# Altium integrated library ElemoW12S-01.IntLib: 10 symbols
Pins are listed as number, name and electrical type; pins without a type are passive.

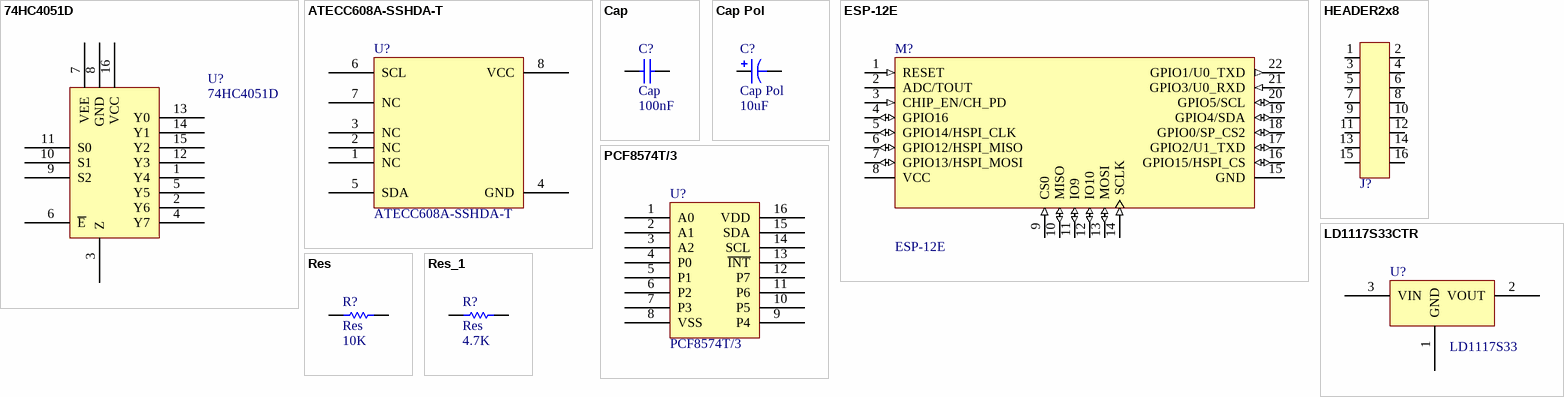
[diagram p0: symbols 74HC4051D to Res_1]

## 74HC4051D
designator U?
CMOS ANALOG/DIGITAL MUX/DEMUX
footprint SO_16N (SOIC, 16-Leads, Body 9.9x3.9mm (max), Pitch 1.27mm, IPC Medium Density)
pins: 1 Y4, 2 Y6, 3 Z, 4 Y7, 5 Y5, 6 ~{E}, 7 VEE, 8 GND, 9 S2, 10 S1, 11 S0, 12 Y3, 13 Y0, 14 Y1, 15 Y2, 16 VCC

## ATECC608A-SSHDA-T
designator U?
IC AUTHENTICATION CHIP 8SOIC; MF: Microchip; Check_prices: https://www.snapeda.com/parts/ATECC608A-SSHDA-T/Microchip/view-part/2888503/?ref=eda; Availability: Warning; Price: None; Package: SO-8 Microchip; Value: *; Purchase-URL: https://pricing.snapeda.com/search/part/ATECC608A-SSHDA-T/?ref=eda; SnapEDA_Link: https://www.snapeda.com/parts/ATECC608A-SSHDA-T/Microchip/view-part/2888503/?ref=snap; MP: ATECC608A-SSHDA-T
footprint SO_8N (SOIC, 8-Leads, Body 5.1x3.9mm (max), Pitch 1.27mm, IPC Medium Density)
pins: 1 NC, 2 NC, 3 NC, 4 GND, 5 SDA, 6 SCL, 7 NC, 8 VCC

## Cap
designator C?  value 100nF
Capacitor; Published: 8-Jun-2000; LatestRevisionDate: 17-Jul-2002; LatestRevisionNote: Re-released for DXP Platform.; PackageReference: RAD-0.3; Publisher: Altium Limited; PackageDescription: Radial Cap, Thru-Hole; 2 Leads; 0.3 in Pin Spacing
footprint RAD-0.3 (Radial Cap, Thru-Hole; 2 Leads; 0.3 in Pin Spacing)
simulation model CAP (Capacitor)
signal-integrity model Cap
footprint 0201 (Chip Resistor, 2-Leads, Body 0.6x0.3mm, IPC Medium Density)
footprint 0402 (Chip Resistor, 2-Leads, Body 1.0x0.5mm, IPC Medium Density)
footprint 0603 (Chip Resistor, 2-Leads, Body 1.6x0.8mm, IPC Medium Density)
footprint 0805 (Chip Resistor, 2-Leads, Body 2.0x1.2mm, IPC Medium Density)
footprint 1206 (Chip Capacitor, 2-Leads, Body 3.2x1.6mm, IPC Medium Density)
pins: 1, 2

## Cap Pol
designator C?  value 10uF
Polarized Capacitor (Axial); Published: 8-Jun-2000; LatestRevisionDate: 17-Jul-2002; LatestRevisionNote: Re-released for DXP Platform.; PackageReference: POLAR0.8; Publisher: Altium Limited; PackageDescription: Polarized Capacitor; 2 Leads
footprint POLAR0.8 (Polarized Capacitor; 2 Leads)
simulation model CAP (Capacitor)
signal-integrity model Cap Pol
footprint CAPAE170X170 (Molded Capacitor, 2-Leads, Body 4.3x4.3mm, IPC Medium Density)
footprint CAPAE325X325
footprint CAPAE330X330 (Molded Capacitor, 2-Leads, Body 8.3x8.3mm, IPC Medium Density)
footprint 0603P (Chip Resistor, 2-Leads, Body 1.6x0.8mm, IPC Medium Density)
footprint 0805P (hip Capacitor, 2-Leads, Body 2.1x1.4mm, IPC Medium Density)
footprint 1206P (Chip Capacitor, 2-Leads, Body 3.2x1.6mm, IPC Medium Density)
footprint RB100-270
footprint EL_C_4_5
pins: 1, 2
1 alternate drawing of the same symbol

## ESP-12E
designator M?
ESP-12F WiFi module - developed by Ai-thinker Team
footprint ESP8266-12E
pins: 1 RESET (in), 2 ADC/TOUT, 3 CHIP_EN/CH_PD (in), 4 GPIO16 (io), 5 GPIO14/HSPI_CLK (io), 6 GPIO12/HSPI_MISO (io), 7 GPIO13/HSPI_MOSI (io), 8 VCC (power), 9 CS0 (in), 10 MISO (io), 11 IO9 (io), 12 IO10 (io), 13 MOSI (io), 14 SCLK (in), 15 GND (power), 16 GPIO15/HSPI_CS (io), 17 GPIO2/U1_TXD (io), 18 GPIO0/SP_CS2 (io), 19 GPIO4/SDA (io), 20 GPIO5/SCL (io), 21 GPIO3/U0_RXD (in), 22 GPIO1/U0_TXD (out)

## HEADER2x8
designator J?, comment 2x8 PIN HEADER  (value not drawn)
footprint HDR_2X8_1.27_SMT
pins: 1, 2, 3, 4, 5, 6, 7, 8, 9, 10, 11, 12, 13, 14, 15, 16

## LD1117S33CTR
designator U?, comment LD1117S33
IC REG LINEAR 3.3V 800MA; Part Number: LD1117S33CTR; Manufacturer: STMicroelectronics; Package: SOT223
footprint SOT223_4 (SOT223, 4-Leads, Body 6.7x7.3mm (max), Pitch 2.30mm, IPC Medium Density)
pins: 1 GND, 2 VOUT, 3 VIN

## PCF8574T/3
designator U?
I2C IO Expander
footprint SO_16W (SOIC, 16-Leads, Body 10.3x7.5mm (max), Pitch 1.27mm, IPC Medium Density)
pins: 1 A0, 2 A1, 3 A2, 4 P0, 5 P1, 6 P2, 7 P3, 8 VSS, 9 P4, 10 P5, 11 P6, 12 P7, 13 ~{INT}, 14 SCL, 15 SDA, 16 VDD

## Res
designator R?  value 10K
Resistor; Published: 8-Jun-2000; LatestRevisionDate: 17-Jul-2002; LatestRevisionNote: Re-released for DXP Platform.; PackageReference: AXIAL-0.3; Publisher: Altium Limited; PackageDescription: Axial Device, Thru-Hole; 2 Leads; 0.3 in Pin Spacing
footprint AXIAL-0.3 (Axial Device, Thru-Hole; 2 Leads; 0.3 in Pin Spacing)
simulation model RESISTOR (Resistor)
signal-integrity model Res
footprint 0201 (Chip Resistor, 2-Leads, Body 0.6x0.3mm, IPC Medium Density)
footprint 0402 (Chip Resistor, 2-Leads, Body 1.0x0.5mm, IPC Medium Density)
footprint 0603 (Chip Resistor, 2-Leads, Body 1.6x0.8mm, IPC Medium Density)
footprint 0805 (Chip Resistor, 2-Leads, Body 2.0x1.2mm, IPC Medium Density)
footprint 1206 (Chip Capacitor, 2-Leads, Body 3.2x1.6mm, IPC Medium Density)
pins: 1, 2

## Res_1
designator R?, comment Res  value 4.7K
Resistor; Published: 8-Jun-2000; LatestRevisionDate: 17-Jul-2002; LatestRevisionNote: Re-released for DXP Platform.; PackageReference: AXIAL-0.3; Publisher: Altium Limited; PackageDescription: Axial Device, Thru-Hole; 2 Leads; 0.3 in Pin Spacing
footprint AXIAL-0.3 (Axial Device, Thru-Hole; 2 Leads; 0.3 in Pin Spacing)
simulation model RESISTOR (Resistor)
signal-integrity model Res
footprint 0201 (Chip Resistor, 2-Leads, Body 0.6x0.3mm, IPC Medium Density)
footprint 0402 (Chip Resistor, 2-Leads, Body 1.0x0.5mm, IPC Medium Density)
footprint 0603 (Chip Resistor, 2-Leads, Body 1.6x0.8mm, IPC Medium Density)
footprint 0805 (Chip Resistor, 2-Leads, Body 2.0x1.2mm, IPC Medium Density)
footprint 1206 (Chip Capacitor, 2-Leads, Body 3.2x1.6mm, IPC Medium Density)
pins: 1, 2